# EAGLE library part TPA3255DDV (library TPA3255DDV)
Audio Amplifiers 325-W Stereo High-Performance, High-Definition, Class-D Amplifier 44-HTSSOP 0 to 70 Source: Datasheet <https://datasheet.datasheetarchive.com/originals/distributors/DKDS-23/444296.pdf>
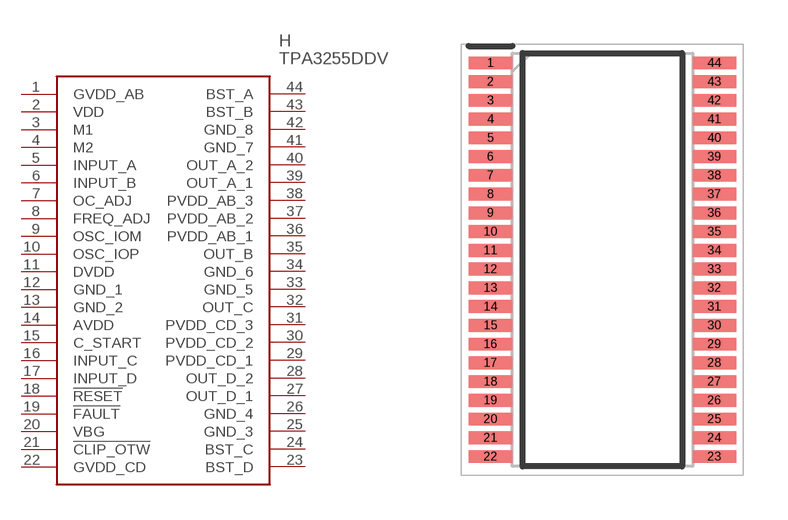
[diagram p0: symbol with the pads of SOP64P810X120-44N; footprint SOP64P810X120-44N]

Designator prefix H

## TPA3255DDV (Description: Audio Amplifiers 325-W Stereo High-Performance, High-Definition, Class-D Amplifier 44-HTSSOP 0 to 70; Height: 1.2mm; Manufacturer_Name: Texas Instruments; Manufacturer_Part_Number: TPA3255DDV; Mouser_Part_Number: 595-TPA3255DDV; Mouser_Price-Stock: https://www.mouser.co.uk/ProductDetail/Texas-Instruments/TPA3255DDV?qs=KuuZdrM3jLyQC3GnfUDTEw%3D%3D)  [SOP64P810X120-44N]
1  GVDD_AB  pwr
2  VDD  pwr
3  M1  in
4  M2  in
5  INPUT_A  in
6  INPUT_B  in
7  OC_ADJ  in
8  FREQ_ADJ  in
9  OSC_IOM  in
10  OSC_IOP  in
11  DVDD  pwr
12  GND_1  pwr
13  GND_2  pwr
14  AVDD  pwr
15  C_START  in
16  INPUT_C  in
17  INPUT_D  in
18  !RESET  in
19  !FAULT  out
20  VBG  in
21  !CLIP_OTW  in
22  GVDD_CD  pwr
23  BST_D  in
24  BST_C  in
25  GND_3  pwr
26  GND_4  pwr
27  OUT_D_1  out
28  OUT_D_2  out
29  PVDD_CD_1  pwr
30  PVDD_CD_2  pwr
31  PVDD_CD_3  pwr
32  OUT_C  out
33  GND_5  pwr
34  GND_6  pwr
35  OUT_B  out
36  PVDD_AB_1  pwr
37  PVDD_AB_2  pwr
38  PVDD_AB_3  pwr
39  OUT_A_1  out
40  OUT_A_2  out
41  GND_7  pwr
42  GND_8  pwr
43  BST_B  in
44  BST_A  in

## Footprint SOP64P810X120-44N (pad centres in mm)
DDV0044D
smd 1.475 x 0.435: 1 -3.788,6.668; 2 -3.788,6.032; 3 -3.788,5.398; 4 -3.788,4.762; 5 -3.788,4.128; 6 -3.788,3.492; 7 -3.788,2.858; 8 -3.788,2.222; 9 -3.788,1.588; 10 -3.788,0.952; 11 -3.788,0.318; 12 -3.788,-0.318; 13 -3.788,-0.952; 14 -3.788,-1.588; 15 -3.788,-2.222; 16 -3.788,-2.858; 17 -3.788,-3.492; 18 -3.788,-4.128; 19 -3.788,-4.762; 20 -3.788,-5.398; 21 -3.788,-6.032; 22 -3.788,-6.668; 23 3.788,-6.668; 24 3.788,-6.032; 25 3.788,-5.398; 26 3.788,-4.762; 27 3.788,-4.128; 28 3.788,-3.492; 29 3.788,-2.858; 30 3.788,-2.222; 31 3.788,-1.588; 32 3.788,-0.952; 33 3.788,-0.318; 34 3.788,0.318; 35 3.788,0.952; 36 3.788,1.588; 37 3.788,2.222; 38 3.788,2.858; 39 3.788,3.492; 40 3.788,4.128; 41 3.788,4.762; 42 3.788,5.398; 43 3.788,6.032; 44 3.788,6.668